# Altium integrated library Microchip Power Management Line Regulator.IntLib: 1169 symbols (part 31 of 31)
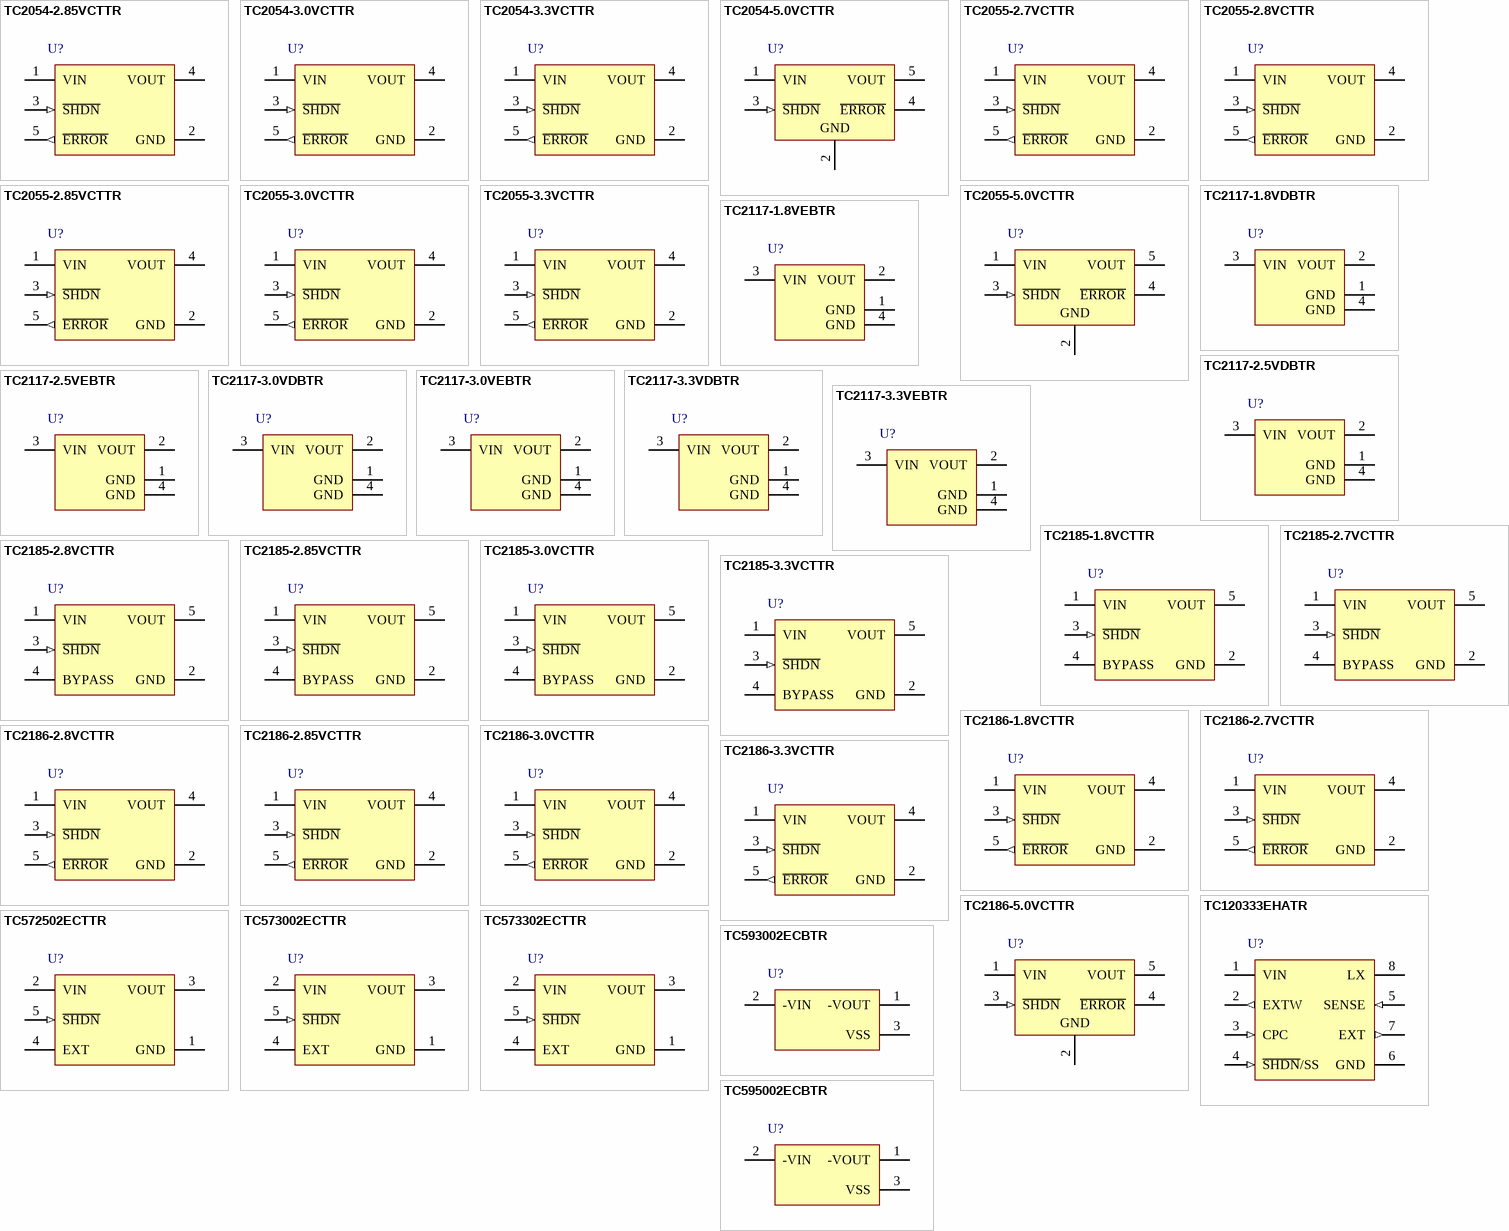
[diagram p59: symbols TC2054-2.85VCTTR to TC595002ECBTR]

## TC2117-2.5VEBTR
designator U?
800 mA Fixed Low Dropout Positive Regulator, 3-Pin DDPAK, Extended Temperature, Tape and Reel; Manufacturer: Microchip; PartNumber: TC2117-2.5VEBTR; DatasheetVersion: revC, Oct-2006; PackageVersion: revBB, Aug-2009; PackageReference: DDPAK-EB3; PackageDescription: 3-Lead Plastic (EB) [DDPAK]; Supplier 1: Digi-Key; Supplier Part Number 1: TC2117-2.5VEBTR-ND; Supplier 2: Mouser; Supplier Part Number 2: 579-TC2117-2.5VEBTR; Mounting Technology: Surface Mount; ComponentLink1Description: Manufacturer URL; ComponentLink1URL: http://www.microchip.com/; ComponentLink2Description: Datasheet; ComponentLink2URL: http://ww1.microchip.com/downloads/en/DeviceDoc/21665c.pdf; ComponentLink3Description: Package Specification; ComponentLink3URL: http://www.microchip.com/stellent/groups/techpub_sg/documents/packagingspec/en012702.pdf
footprint DDPAK-EB3_N (D2-PAK, 4-Leads, Body 9x10.2mm, Pitch 2.54mm, Lead Span 14.9mm, IPC Medium Density)
footprint DDPAK-EB3_L (D2-PAK, 4-Leads, Body 9x10.2mm, Pitch 2.54mm, Lead Span 14.9mm, IPC High Density)
footprint DDPAK-EB3_M (D2-PAK, 4-Leads, Body 9x10.2mm, Pitch 2.54mm, Lead Span 14.9mm, IPC Low Density)
pins: 1 GND (power), 2 VOUT (power), 3 VIN (power), 4 GND (power)

## TC2117-3.0VDBTR
designator U?
800 mA Fixed Low Dropout Positive Regulator, 3-Pin SOT-223, Extended Temperature, Tape and Reel; Manufacturer: Microchip; PartNumber: TC2117-3.0VDBTR; DatasheetVersion: revC, Oct-2006; PackageVersion: revBB, Aug-2009; PackageReference: SOT-223-DB3; PackageDescription: 3-Lead Plastic Small Outline Transistor (DB) [SOT-223]; Supplier 1: Digi-Key; Supplier Part Number 1: TC2117-3.0VDBTR-ND; Supplier 2: Mouser; Supplier Part Number 2: 579-TC2117-3.0VDBTR; Mounting Technology: Surface Mount; ComponentLink1Description: Manufacturer URL; ComponentLink1URL: http://www.microchip.com/; ComponentLink2Description: Datasheet; ComponentLink2URL: http://ww1.microchip.com/downloads/en/DeviceDoc/21665c.pdf; ComponentLink3Description: Package Specification; ComponentLink3URL: http://www.microchip.com/stellent/groups/techpub_sg/documents/packagingspec/en012702.pdf
footprint SOT-223-DB3_N (SOT223, 4-Leads, Body 6.5x3.5mm, Pitch 2.3mm, Lead Span 7mm, IPC Medium Density)
footprint SOT-223-DB3_L (SOT223, 4-Leads, Body 6.5x3.5mm, Pitch 2.3mm, Lead Span 7mm, IPC High Density)
footprint SOT-223-DB3_M (SOT223, 4-Leads, Body 6.5x3.5mm, Pitch 2.3mm, Lead Span 7mm, IPC Low Density)
pins: 1 GND (power), 2 VOUT (power), 3 VIN (power), 4 GND (power)

## TC2117-3.0VEBTR
designator U?
800 mA Fixed Low Dropout Positive Regulator, 3-Pin DDPAK, Extended Temperature, Tape and Reel; Manufacturer: Microchip; PartNumber: TC2117-3.0VEBTR; DatasheetVersion: revC, Oct-2006; PackageVersion: revBB, Aug-2009; PackageReference: DDPAK-EB3; PackageDescription: 3-Lead Plastic (EB) [DDPAK]; Supplier 1: Digi-Key; Supplier Part Number 1: TC2117-3.0VEBTR-ND; Supplier 2: Mouser; Supplier Part Number 2: 579-TC2117-3.0VEBTR; Mounting Technology: Surface Mount; ComponentLink1Description: Manufacturer URL; ComponentLink1URL: http://www.microchip.com/; ComponentLink2Description: Datasheet; ComponentLink2URL: http://ww1.microchip.com/downloads/en/DeviceDoc/21665c.pdf; ComponentLink3Description: Package Specification; ComponentLink3URL: http://www.microchip.com/stellent/groups/techpub_sg/documents/packagingspec/en012702.pdf
footprint DDPAK-EB3_N (D2-PAK, 4-Leads, Body 9x10.2mm, Pitch 2.54mm, Lead Span 14.9mm, IPC Medium Density)
footprint DDPAK-EB3_L (D2-PAK, 4-Leads, Body 9x10.2mm, Pitch 2.54mm, Lead Span 14.9mm, IPC High Density)
footprint DDPAK-EB3_M (D2-PAK, 4-Leads, Body 9x10.2mm, Pitch 2.54mm, Lead Span 14.9mm, IPC Low Density)
pins: 1 GND (power), 2 VOUT (power), 3 VIN (power), 4 GND (power)

## TC2117-3.3VDBTR
designator U?
800 mA Fixed Low Dropout Positive Regulator, 3-Pin SOT-223, Extended Temperature, Tape and Reel; Manufacturer: Microchip; PartNumber: TC2117-3.3VDBTR; DatasheetVersion: revC, Oct-2006; PackageVersion: revBB, Aug-2009; PackageReference: SOT-223-DB3; PackageDescription: 3-Lead Plastic Small Outline Transistor (DB) [SOT-223]; Supplier 1: Digi-Key; Supplier Part Number 1: TC2117-3.3VDBTR-ND; Supplier 2: Farnell; Supplier Part Number 2: 1605581RL; Supplier 3: Farnell; Supplier Part Number 3: 1605581; Supplier 4: Newark; Supplier Part Number 4: 11N8302; Supplier 5: Mouser; Supplier Part Number 5: 579-TC2117-3.3VDBTR; Mounting Technology: Surface Mount; ComponentLink1Description: Manufacturer URL; ComponentLink1URL: http://www.microchip.com/; ComponentLink2Description: Datasheet; ComponentLink2URL: http://ww1.microchip.com/downloads/en/DeviceDoc/21665c.pdf; ComponentLink3Description: Package Specification; ComponentLink3URL: http://www.microchip.com/stellent/groups/techpub_sg/documents/packagingspec/en012702.pdf
footprint SOT-223-DB3_N (SOT223, 4-Leads, Body 6.5x3.5mm, Pitch 2.3mm, Lead Span 7mm, IPC Medium Density)
footprint SOT-223-DB3_L (SOT223, 4-Leads, Body 6.5x3.5mm, Pitch 2.3mm, Lead Span 7mm, IPC High Density)
footprint SOT-223-DB3_M (SOT223, 4-Leads, Body 6.5x3.5mm, Pitch 2.3mm, Lead Span 7mm, IPC Low Density)
pins: 1 GND (power), 2 VOUT (power), 3 VIN (power), 4 GND (power)

## TC2117-3.3VEBTR
designator U?
800 mA Fixed Low Dropout Positive Regulator, 3-Pin DDPAK, Extended Temperature, Tape and Reel; Manufacturer: Microchip; PartNumber: TC2117-3.3VEBTR; DatasheetVersion: revC, Oct-2006; PackageVersion: revBB, Aug-2009; PackageReference: DDPAK-EB3; PackageDescription: 3-Lead Plastic (EB) [DDPAK]; Supplier 1: Digi-Key; Supplier Part Number 1: TC2117-3.3VEBTR-ND; Supplier 2: Mouser; Supplier Part Number 2: 579-TC2117-3.3VEBTR; Mounting Technology: Surface Mount; ComponentLink1Description: Manufacturer URL; ComponentLink1URL: http://www.microchip.com/; ComponentLink2Description: Datasheet; ComponentLink2URL: http://ww1.microchip.com/downloads/en/DeviceDoc/21665c.pdf; ComponentLink3Description: Package Specification; ComponentLink3URL: http://www.microchip.com/stellent/groups/techpub_sg/documents/packagingspec/en012702.pdf
footprint DDPAK-EB3_N (D2-PAK, 4-Leads, Body 9x10.2mm, Pitch 2.54mm, Lead Span 14.9mm, IPC Medium Density)
footprint DDPAK-EB3_L (D2-PAK, 4-Leads, Body 9x10.2mm, Pitch 2.54mm, Lead Span 14.9mm, IPC High Density)
footprint DDPAK-EB3_M (D2-PAK, 4-Leads, Body 9x10.2mm, Pitch 2.54mm, Lead Span 14.9mm, IPC Low Density)
pins: 1 GND (power), 2 VOUT (power), 3 VIN (power), 4 GND (power)

## TC2185-1.8VCTTR
designator U?
50 mA, 100 mA, 150 mA CMOS LDOs with Shutdown and Reference Bypass, 5-Pin SOT-23, Extended Temperature, Tape and Reel; Manufacturer: Microchip; PartNumber: TC2185-1.8VCTTR; DatasheetVersion: revE, May-2006; PackageVersion: revBB, Aug-2009; PackageReference: SOT-23-CT5; PackageDescription: 5-Lead Plastic Small Outline Transistor (CT) [SOT-23]; Supplier 1: Digi-Key; Supplier Part Number 1: TC2185-1.8VCTR-ND; Supplier 2: Digi-Key; Supplier Part Number 2: TC2185-1.8VCCT-ND; Supplier 3: Digi-Key; Supplier Part Number 3: TC2185-1.8VCDKR-ND; Supplier 4: Newark; Supplier Part Number 4: 92C5981; Supplier 5: Mouser; Supplier Part Number 5: 579-TC2185-1.8VCTTR; Mounting Technology: Surface Mount; Code_IPC: SOT23-5; ComponentLink1Description: Manufacturer URL; ComponentLink1URL: http://www.microchip.com/; ComponentLink2Description: Datasheet; ComponentLink2URL: http://ww1.microchip.com/downloads/en/DeviceDoc/21662e.pdf; ComponentLink3Description: Package Specification; ComponentLink3URL: http://www.microchip.com/stellent/groups/techpub_sg/documents/packagingspec/en012702.pdf
footprint SOT-23-CT5_N (SOT23, 5-Leads, Body 2.9x1.6mm, Pitch 0.95mm, Lead Span 2.7mm, IPC Medium Density)
footprint SOT-23-CT5_L (SOT23, 5-Leads, Body 2.9x1.6mm, Pitch 0.95mm, Lead Span 2.7mm, IPC High Density)
footprint SOT-23-CT5_M (SOT23, 5-Leads, Body 2.9x1.6mm, Pitch 0.95mm, Lead Span 2.7mm, IPC Low Density)
pins: 1 VIN (power), 2 GND (power), 3 ~{SHDN} (in), 4 BYPASS, 5 VOUT (power)

## TC2185-2.7VCTTR
designator U?
50 mA, 100 mA, 150 mA CMOS LDOs with Shutdown and Reference Bypass, 5-Pin SOT-23, Extended Temperature, Tape and Reel; Manufacturer: Microchip; PartNumber: TC2185-2.7VCTTR; DatasheetVersion: revE, May-2006; PackageVersion: revBB, Aug-2009; PackageReference: SOT-23-CT5; PackageDescription: 5-Lead Plastic Small Outline Transistor (CT) [SOT-23]; Supplier 1: Digi-Key; Supplier Part Number 1: TC2185-2.7VCTTR-ND; Supplier 2: Mouser; Supplier Part Number 2: 579-TC2185-2.7VCTTR; Mounting Technology: Surface Mount; Code_IPC: SOT23-5; ComponentLink1Description: Manufacturer URL; ComponentLink1URL: http://www.microchip.com/; ComponentLink2Description: Datasheet; ComponentLink2URL: http://ww1.microchip.com/downloads/en/DeviceDoc/21662e.pdf; ComponentLink3Description: Package Specification; ComponentLink3URL: http://www.microchip.com/stellent/groups/techpub_sg/documents/packagingspec/en012702.pdf
footprint SOT-23-CT5_N (SOT23, 5-Leads, Body 2.9x1.6mm, Pitch 0.95mm, Lead Span 2.7mm, IPC Medium Density)
footprint SOT-23-CT5_L (SOT23, 5-Leads, Body 2.9x1.6mm, Pitch 0.95mm, Lead Span 2.7mm, IPC High Density)
footprint SOT-23-CT5_M (SOT23, 5-Leads, Body 2.9x1.6mm, Pitch 0.95mm, Lead Span 2.7mm, IPC Low Density)
pins: 1 VIN (power), 2 GND (power), 3 ~{SHDN} (in), 4 BYPASS, 5 VOUT (power)

## TC2185-2.8VCTTR
designator U?
50 mA, 100 mA, 150 mA CMOS LDOs with Shutdown and Reference Bypass, 5-Pin SOT-23, Extended Temperature, Tape and Reel; Manufacturer: Microchip; PartNumber: TC2185-2.8VCTTR; DatasheetVersion: revE, May-2006; PackageVersion: revBB, Aug-2009; PackageReference: SOT-23-CT5; PackageDescription: 5-Lead Plastic Small Outline Transistor (CT) [SOT-23]; Supplier 1: Digi-Key; Supplier Part Number 1: TC2185-2.8VCTR-ND; Supplier 2: Digi-Key; Supplier Part Number 2: TC2185-2.8VCCT-ND; Supplier 3: Digi-Key; Supplier Part Number 3: TC2185-2.8VCDKR-ND; Supplier 4: Mouser; Supplier Part Number 4: 579-TC2185-2.8VCTTR; Mounting Technology: Surface Mount; Code_IPC: SOT23-5; ComponentLink1Description: Manufacturer URL; ComponentLink1URL: http://www.microchip.com/; ComponentLink2Description: Datasheet; ComponentLink2URL: http://ww1.microchip.com/downloads/en/DeviceDoc/21662e.pdf; ComponentLink3Description: Package Specification; ComponentLink3URL: http://www.microchip.com/stellent/groups/techpub_sg/documents/packagingspec/en012702.pdf
footprint SOT-23-CT5_N (SOT23, 5-Leads, Body 2.9x1.6mm, Pitch 0.95mm, Lead Span 2.7mm, IPC Medium Density)
footprint SOT-23-CT5_L (SOT23, 5-Leads, Body 2.9x1.6mm, Pitch 0.95mm, Lead Span 2.7mm, IPC High Density)
footprint SOT-23-CT5_M (SOT23, 5-Leads, Body 2.9x1.6mm, Pitch 0.95mm, Lead Span 2.7mm, IPC Low Density)
pins: 1 VIN (power), 2 GND (power), 3 ~{SHDN} (in), 4 BYPASS, 5 VOUT (power)

## TC2185-2.85VCTTR
designator U?
50 mA, 100 mA, 150 mA CMOS LDOs with Shutdown and Reference Bypass, 5-Pin SOT-23, Extended Temperature, Tape and Reel; Manufacturer: Microchip; PartNumber: TC2185-2.85VCTTR; DatasheetVersion: revE, May-2006; PackageVersion: revBB, Aug-2009; PackageReference: SOT-23-CT5; PackageDescription: 5-Lead Plastic Small Outline Transistor (CT) [SOT-23]; Supplier 1: Digi-Key; Supplier Part Number 1: TC2185-2.85VCTTR-ND; Supplier 2: Mouser; Supplier Part Number 2: 579-TC2185-2.85VCTTR; Mounting Technology: Surface Mount; Code_IPC: SOT23-5; ComponentLink1Description: Manufacturer URL; ComponentLink1URL: http://www.microchip.com/; ComponentLink2Description: Datasheet; ComponentLink2URL: http://ww1.microchip.com/downloads/en/DeviceDoc/21662e.pdf; ComponentLink3Description: Package Specification; ComponentLink3URL: http://www.microchip.com/stellent/groups/techpub_sg/documents/packagingspec/en012702.pdf
footprint SOT-23-CT5_N (SOT23, 5-Leads, Body 2.9x1.6mm, Pitch 0.95mm, Lead Span 2.7mm, IPC Medium Density)
footprint SOT-23-CT5_L (SOT23, 5-Leads, Body 2.9x1.6mm, Pitch 0.95mm, Lead Span 2.7mm, IPC High Density)
footprint SOT-23-CT5_M (SOT23, 5-Leads, Body 2.9x1.6mm, Pitch 0.95mm, Lead Span 2.7mm, IPC Low Density)
pins: 1 VIN (power), 2 GND (power), 3 ~{SHDN} (in), 4 BYPASS, 5 VOUT (power)

## TC2185-3.0VCTTR
designator U?
50 mA, 100 mA, 150 mA CMOS LDOs with Shutdown and Reference Bypass, 5-Pin SOT-23, Extended Temperature, Tape and Reel; Manufacturer: Microchip; PartNumber: TC2185-3.0VCTTR; DatasheetVersion: revE, May-2006; PackageVersion: revBB, Aug-2009; PackageReference: SOT-23-CT5; PackageDescription: 5-Lead Plastic Small Outline Transistor (CT) [SOT-23]; Supplier 1: Digi-Key; Supplier Part Number 1: TC2185-3.0VCTR-ND; Supplier 2: Digi-Key; Supplier Part Number 2: TC2185-3.0VCCT-ND; Supplier 3: Digi-Key; Supplier Part Number 3: TC2185-3.0VCDKR-ND; Supplier 4: Newark; Supplier Part Number 4: 92C5985; Supplier 5: Mouser; Supplier Part Number 5: 579-TC2185-3.0VCTTR; Mounting Technology: Surface Mount; Code_IPC: SOT23-5; ComponentLink1Description: Manufacturer URL; ComponentLink1URL: http://www.microchip.com/; ComponentLink2Description: Datasheet; ComponentLink2URL: http://ww1.microchip.com/downloads/en/DeviceDoc/21662e.pdf; ComponentLink3Description: Package Specification; ComponentLink3URL: http://www.microchip.com/stellent/groups/techpub_sg/documents/packagingspec/en012702.pdf
footprint SOT-23-CT5_N (SOT23, 5-Leads, Body 2.9x1.6mm, Pitch 0.95mm, Lead Span 2.7mm, IPC Medium Density)
footprint SOT-23-CT5_L (SOT23, 5-Leads, Body 2.9x1.6mm, Pitch 0.95mm, Lead Span 2.7mm, IPC High Density)
footprint SOT-23-CT5_M (SOT23, 5-Leads, Body 2.9x1.6mm, Pitch 0.95mm, Lead Span 2.7mm, IPC Low Density)
pins: 1 VIN (power), 2 GND (power), 3 ~{SHDN} (in), 4 BYPASS, 5 VOUT (power)

## TC2185-3.3VCTTR
designator U?
50 mA, 100 mA, 150 mA CMOS LDOs with Shutdown and Reference Bypass, 5-Pin SOT-23, Extended Temperature, Tape and Reel; Manufacturer: Microchip; PartNumber: TC2185-3.3VCTTR; DatasheetVersion: revE, May-2006; PackageVersion: revBB, Aug-2009; PackageReference: SOT-23-CT5; PackageDescription: 5-Lead Plastic Small Outline Transistor (CT) [SOT-23]; Supplier 1: Digi-Key; Supplier Part Number 1: TC2185-3.3VCTR-ND; Supplier 2: Digi-Key; Supplier Part Number 2: TC2185-3.3VCCT-ND; Supplier 3: Digi-Key; Supplier Part Number 3: TC2185-3.3VCDKR-ND; Supplier 4: Mouser; Supplier Part Number 4: 579-TC2185-3.3VCTTR; Mounting Technology: Surface Mount; Code_IPC: SOT23-5; ComponentLink1Description: Manufacturer URL; ComponentLink1URL: http://www.microchip.com/; ComponentLink2Description: Datasheet; ComponentLink2URL: http://ww1.microchip.com/downloads/en/DeviceDoc/21662e.pdf; ComponentLink3Description: Package Specification; ComponentLink3URL: http://www.microchip.com/stellent/groups/techpub_sg/documents/packagingspec/en012702.pdf
footprint SOT-23-CT5_N (SOT23, 5-Leads, Body 2.9x1.6mm, Pitch 0.95mm, Lead Span 2.7mm, IPC Medium Density)
footprint SOT-23-CT5_L (SOT23, 5-Leads, Body 2.9x1.6mm, Pitch 0.95mm, Lead Span 2.7mm, IPC High Density)
footprint SOT-23-CT5_M (SOT23, 5-Leads, Body 2.9x1.6mm, Pitch 0.95mm, Lead Span 2.7mm, IPC Low Density)
pins: 1 VIN (power), 2 GND (power), 3 ~{SHDN} (in), 4 BYPASS, 5 VOUT (power)

## TC2186-1.8VCTTR
designator U?
50 mA, 100 mA, 150 mA CMOS LDOs with Shutdown and Reference Bypass, 5-Pin SOT-23, Extended Temperature, Tape and Reel; Manufacturer: Microchip; PartNumber: TC2186-1.8VCTTR; DatasheetVersion: revE, May-2006; PackageVersion: revBB, Aug-2009; PackageReference: SOT-23-CT5; PackageDescription: 5-Lead Plastic Small Outline Transistor (CT) [SOT-23]; Supplier 1: Digi-Key; Supplier Part Number 1: TC2186-1.8VCTTR-ND; Supplier 2: Mouser; Supplier Part Number 2: 579-TC2186-1.8VCTTR; Mounting Technology: Surface Mount; Code_IPC: SOT23-5; ComponentLink1Description: Manufacturer URL; ComponentLink1URL: http://www.microchip.com/; ComponentLink2Description: Datasheet; ComponentLink2URL: http://ww1.microchip.com/downloads/en/DeviceDoc/21662e.pdf; ComponentLink3Description: Package Specification; ComponentLink3URL: http://www.microchip.com/stellent/groups/techpub_sg/documents/packagingspec/en012702.pdf
footprint SOT-23-CT5_N (SOT23, 5-Leads, Body 2.9x1.6mm, Pitch 0.95mm, Lead Span 2.7mm, IPC Medium Density)
footprint SOT-23-CT5_L (SOT23, 5-Leads, Body 2.9x1.6mm, Pitch 0.95mm, Lead Span 2.7mm, IPC High Density)
footprint SOT-23-CT5_M (SOT23, 5-Leads, Body 2.9x1.6mm, Pitch 0.95mm, Lead Span 2.7mm, IPC Low Density)
pins: 1 VIN (power), 2 GND (power), 3 ~{SHDN} (in), 4 VOUT (power), 5 ~{ERROR} (out)

## TC2186-2.7VCTTR
designator U?
50 mA, 100 mA, 150 mA CMOS LDOs with Shutdown and Reference Bypass, 5-Pin SOT-23, Extended Temperature, Tape and Reel; Manufacturer: Microchip; PartNumber: TC2186-2.7VCTTR; DatasheetVersion: revE, May-2006; PackageVersion: revBB, Aug-2009; PackageReference: SOT-23-CT5; PackageDescription: 5-Lead Plastic Small Outline Transistor (CT) [SOT-23]; Supplier 1: Digi-Key; Supplier Part Number 1: TC2186-2.7VCTTR-ND; Supplier 2: Mouser; Supplier Part Number 2: 579-TC2186-2.7VCTTR; Mounting Technology: Surface Mount; Code_IPC: SOT23-5; ComponentLink1Description: Manufacturer URL; ComponentLink1URL: http://www.microchip.com/; ComponentLink2Description: Datasheet; ComponentLink2URL: http://ww1.microchip.com/downloads/en/DeviceDoc/21662e.pdf; ComponentLink3Description: Package Specification; ComponentLink3URL: http://www.microchip.com/stellent/groups/techpub_sg/documents/packagingspec/en012702.pdf
footprint SOT-23-CT5_N (SOT23, 5-Leads, Body 2.9x1.6mm, Pitch 0.95mm, Lead Span 2.7mm, IPC Medium Density)
footprint SOT-23-CT5_L (SOT23, 5-Leads, Body 2.9x1.6mm, Pitch 0.95mm, Lead Span 2.7mm, IPC High Density)
footprint SOT-23-CT5_M (SOT23, 5-Leads, Body 2.9x1.6mm, Pitch 0.95mm, Lead Span 2.7mm, IPC Low Density)
pins: 1 VIN (power), 2 GND (power), 3 ~{SHDN} (in), 4 VOUT (power), 5 ~{ERROR} (out)

## TC2186-2.8VCTTR
designator U?
50 mA, 100 mA, 150 mA CMOS LDOs with Shutdown and Reference Bypass, 5-Pin SOT-23, Extended Temperature, Tape and Reel; Manufacturer: Microchip; PartNumber: TC2186-2.8VCTTR; DatasheetVersion: revE, May-2006; PackageVersion: revBB, Aug-2009; PackageReference: SOT-23-CT5; PackageDescription: 5-Lead Plastic Small Outline Transistor (CT) [SOT-23]; Supplier 1: Digi-Key; Supplier Part Number 1: TC2186-2.8VCTTR-ND; Supplier 2: Mouser; Supplier Part Number 2: 579-TC2186-2.8VCTTR; Mounting Technology: Surface Mount; Code_IPC: SOT23-5; ComponentLink1Description: Manufacturer URL; ComponentLink1URL: http://www.microchip.com/; ComponentLink2Description: Datasheet; ComponentLink2URL: http://ww1.microchip.com/downloads/en/DeviceDoc/21662e.pdf; ComponentLink3Description: Package Specification; ComponentLink3URL: http://www.microchip.com/stellent/groups/techpub_sg/documents/packagingspec/en012702.pdf
footprint SOT-23-CT5_N (SOT23, 5-Leads, Body 2.9x1.6mm, Pitch 0.95mm, Lead Span 2.7mm, IPC Medium Density)
footprint SOT-23-CT5_L (SOT23, 5-Leads, Body 2.9x1.6mm, Pitch 0.95mm, Lead Span 2.7mm, IPC High Density)
footprint SOT-23-CT5_M (SOT23, 5-Leads, Body 2.9x1.6mm, Pitch 0.95mm, Lead Span 2.7mm, IPC Low Density)
pins: 1 VIN (power), 2 GND (power), 3 ~{SHDN} (in), 4 VOUT (power), 5 ~{ERROR} (out)

## TC2186-2.85VCTTR
designator U?
50 mA, 100 mA, 150 mA CMOS LDOs with Shutdown and Reference Bypass, 5-Pin SOT-23, Extended Temperature, Tape and Reel; Manufacturer: Microchip; PartNumber: TC2186-2.85VCTTR; DatasheetVersion: revE, May-2006; PackageVersion: revBB, Aug-2009; PackageReference: SOT-23-CT5; PackageDescription: 5-Lead Plastic Small Outline Transistor (CT) [SOT-23]; Supplier 1: Digi-Key; Supplier Part Number 1: TC2186-2.85VCTTR-ND; Supplier 2: Mouser; Supplier Part Number 2: 579-TC2186-2.85VCTTR; Mounting Technology: Surface Mount; Code_IPC: SOT23-5; ComponentLink1Description: Manufacturer URL; ComponentLink1URL: http://www.microchip.com/; ComponentLink2Description: Datasheet; ComponentLink2URL: http://ww1.microchip.com/downloads/en/DeviceDoc/21662e.pdf; ComponentLink3Description: Package Specification; ComponentLink3URL: http://www.microchip.com/stellent/groups/techpub_sg/documents/packagingspec/en012702.pdf
footprint SOT-23-CT5_N (SOT23, 5-Leads, Body 2.9x1.6mm, Pitch 0.95mm, Lead Span 2.7mm, IPC Medium Density)
footprint SOT-23-CT5_L (SOT23, 5-Leads, Body 2.9x1.6mm, Pitch 0.95mm, Lead Span 2.7mm, IPC High Density)
footprint SOT-23-CT5_M (SOT23, 5-Leads, Body 2.9x1.6mm, Pitch 0.95mm, Lead Span 2.7mm, IPC Low Density)
pins: 1 VIN (power), 2 GND (power), 3 ~{SHDN} (in), 4 VOUT (power), 5 ~{ERROR} (out)

## TC2186-3.0VCTTR
designator U?
50 mA, 100 mA, 150 mA CMOS LDOs with Shutdown and Reference Bypass, 5-Pin SOT-23, Extended Temperature, Tape and Reel; Manufacturer: Microchip; PartNumber: TC2186-3.0VCTTR; DatasheetVersion: revE, May-2006; PackageVersion: revBB, Aug-2009; PackageReference: SOT-23-CT5; PackageDescription: 5-Lead Plastic Small Outline Transistor (CT) [SOT-23]; Supplier 1: Digi-Key; Supplier Part Number 1: TC2186-3.0VCTTR-ND; Supplier 2: Mouser; Supplier Part Number 2: 579-TC2186-3.0VCTTR; Mounting Technology: Surface Mount; Code_IPC: SOT23-5; ComponentLink1Description: Manufacturer URL; ComponentLink1URL: http://www.microchip.com/; ComponentLink2Description: Datasheet; ComponentLink2URL: http://ww1.microchip.com/downloads/en/DeviceDoc/21662e.pdf; ComponentLink3Description: Package Specification; ComponentLink3URL: http://www.microchip.com/stellent/groups/techpub_sg/documents/packagingspec/en012702.pdf
footprint SOT-23-CT5_N (SOT23, 5-Leads, Body 2.9x1.6mm, Pitch 0.95mm, Lead Span 2.7mm, IPC Medium Density)
footprint SOT-23-CT5_L (SOT23, 5-Leads, Body 2.9x1.6mm, Pitch 0.95mm, Lead Span 2.7mm, IPC High Density)
footprint SOT-23-CT5_M (SOT23, 5-Leads, Body 2.9x1.6mm, Pitch 0.95mm, Lead Span 2.7mm, IPC Low Density)
pins: 1 VIN (power), 2 GND (power), 3 ~{SHDN} (in), 4 VOUT (power), 5 ~{ERROR} (out)

## TC2186-3.3VCTTR
designator U?
50 mA, 100 mA, 150 mA CMOS LDOs with Shutdown and Reference Bypass, 5-Pin SOT-23, Extended Temperature, Tape and Reel; Manufacturer: Microchip; PartNumber: TC2186-3.3VCTTR; DatasheetVersion: revE, May-2006; PackageVersion: revBB, Aug-2009; PackageReference: SOT-23-CT5; PackageDescription: 5-Lead Plastic Small Outline Transistor (CT) [SOT-23]; Supplier 1: Digi-Key; Supplier Part Number 1: TC2186-3.3VCTTR-ND; Supplier 2: Mouser; Supplier Part Number 2: 579-TC2186-3.3VCTTR; Mounting Technology: Surface Mount; Code_IPC: SOT23-5; ComponentLink1Description: Manufacturer URL; ComponentLink1URL: http://www.microchip.com/; ComponentLink2Description: Datasheet; ComponentLink2URL: http://ww1.microchip.com/downloads/en/DeviceDoc/21662e.pdf; ComponentLink3Description: Package Specification; ComponentLink3URL: http://www.microchip.com/stellent/groups/techpub_sg/documents/packagingspec/en012702.pdf
footprint SOT-23-CT5_N (SOT23, 5-Leads, Body 2.9x1.6mm, Pitch 0.95mm, Lead Span 2.7mm, IPC Medium Density)
footprint SOT-23-CT5_L (SOT23, 5-Leads, Body 2.9x1.6mm, Pitch 0.95mm, Lead Span 2.7mm, IPC High Density)
footprint SOT-23-CT5_M (SOT23, 5-Leads, Body 2.9x1.6mm, Pitch 0.95mm, Lead Span 2.7mm, IPC Low Density)
pins: 1 VIN (power), 2 GND (power), 3 ~{SHDN} (in), 4 VOUT (power), 5 ~{ERROR} (out)

## TC2186-5.0VCTTR
designator U?
CMOS LDOs with Shutdown and E / o / Output, Output Current 150 mA, Max Input Voltage 6 V, Output Voltage 5 V, -40 to 125 degC, 5-pin SOT-23 (OT5), Tape and Reel; Manufacturer: Microchip; PartNumber: TC2186-5.0VCTTR; DatasheetVersion: Rev. D; PackageVersion: C04-091B; PackageReference: SOT-23-OT5; PackageDescription: 5-Lead Plastic Small Outline Transistor, 2.9 x 1.55 mm Body, 0.95 mm Pitch; Supplier 1: Digi-Key; Supplier Part Number 1: TC2186-5.0VCTTR-ND; Supplier 2: Digi-Key; Supplier Part Number 2: TC2186-5.0VCTCT-ND; Supplier 3: Digi-Key; Supplier Part Number 3: TC2186-5.0VCTDKR-ND; Supplier 4: Newark; Supplier Part Number 4: 53R0377; Supplier 5: Mouser; Supplier Part Number 5: 579-TC2186-5.0VCTTR; Mounting Technology: Surface Mount; ComponentLink1Description: Manufacturer URL; ComponentLink1URL: http://www.microchip.com; ComponentLink2Description: Datasheet; ComponentLink2URL: http://ww1.microchip.com/downloads/en/DeviceDoc/21663d.pdf; ComponentLink3Description: Package Specification; ComponentLink3URL: http://www.microchip.com/stellent/groups/techpub_sg/documents/packagingspec/en012702.pdf; ComponentLink4Description: Product URL; ComponentLink4URL: http://www.microchip.com/TC2186
footprint MCHP-SOT-23-OT5_N (SOT23, 5-Leads, Body 2.9x1.55mm, Pitch 0.95mm, IPC Medium Density)
footprint MCHP-SOT-23-OT5_L (SOT23, 5-Leads, Body 2.9x1.55mm, Pitch 0.95mm, IPC High Density)
footprint MCHP-SOT-23-OT5_M (SOT23, 5-Leads, Body 2.9x1.55mm, Pitch 0.95mm, IPC Low Density)
pins: 1 VIN (power) "Unregulated supply input.", 2 GND (power) "Ground terminal.", 3 ~{SHDN} (in) "Shutdown control input. The regulator is fully enabled when a logic high is applied to this input. The regulator enters shutdown when a logic low is applied to this input. During shutdown, output voltage falls to zero, ERROR (See Datasheet)", 4 ~{ERROR} (oc) "Out-of-Regulation Flag. (Open-drain output). This output goes low when VOUT is out-of-tolerance by approximately -5%.", 5 VOUT (power) "Regulated voltage output."

## TC120333EHATR
designator U?
PWM / PFM Step-Down Combination Regulator / Controller, 1.8 to 10 V Input Voltage, 3.3 V Output Voltage, -40 to 85 degC, 8-pin SOP (HA8), Tape and Reel; Manufacturer: Microchip; PartNumber: TC120333EHATR; PackageReference: SOP-HA8; PackageDescription: 8-Lead SOP, 5.2 x 4.4 mm Body, 1.27 mm Pitch; Supplier 1: Digi-Key; Supplier Part Number 1: TC120333EHATR-ND; Supplier 2: Mouser; Supplier Part Number 2: 579-TC120333EHATR; Mounting Technology: Surface Mount; ComponentLink1Description: Manufacturer URL; ComponentLink1URL: http://www.microchip.com; ComponentLink2Description: Datasheet; ComponentLink2URL: http://ww1.microchip.com/downloads/en/DeviceDoc/21365b.pdf; ComponentLink3Description: Package Specification; ComponentLink3URL: http://ww1.microchip.com/downloads/en/DeviceDoc/21365b.pdf; ComponentLink4Description: Product URL; ComponentLink4URL: http://www.microchip.com/TC120
footprint MCHP-SOP-HA8_N (SOP, 8-Leads, Body 5.2x4.4mm, Pitch 1.27mm, IPC Medium Density)
footprint MCHP-SOP-HA8_L (SOP, 8-Leads, Body 5.2x4.4mm, Pitch 1.27mm, IPC High Density)
footprint MCHP-SOP-HA8_M (SOP, 8-Leads, Body 5.2x4.4mm, Pitch 1.27mm, IPC Low Density)
pins: 1 VIN (power) "Unregulated supply input.", 2 EXTW (out) "Extended external switching transistor drive output. This output follows the timing on the EXT output with an additional 100nsec blanking time on both the leading and trailing edges. That is, this output transitions from (See Datasheet)", 3 CPC (in) "Charge pump capacitor input. An inverting charge pump is formed by attaching a capacitor and diode to this input. (See Section 3.5 Improving High Load Efficiency In Regulator Operating Mode).", 4 ~{SHDN}/SS (in) "Shutdown and soft-start control input. A soft start capacitor of 100pF (min) must be connected to this input. The soft start capacitor is charged by an internal µA current source that gently ramps the TC120 into service. (See Datasheet)", 5 SENSE (in) "Voltage sense input. This input must be connected to the output voltage node at the physical location that requires the tightest voltage regulation.", 6 GND (power) "Ground terminal.", 7 EXT (out) "External switching transistor drive output. This output connects directly to the gate of an external P-channel MOSFET for applications requiring output currents greater than 600mA. The timing of this output exactly matches (See Datasheet)", 8 LX (power) "Inductor terminal. This pin is connected to the drain of the internal P-channel switching transistor. If the TC120 is operated as a regulator (i.e., using the internal switch); the inductor must be connected between this pin (See Datasheet)"

## TC572502ECTTR
designator U?
Line Regulator Controller, 5-Pin SOT-23, Industrial Temperature, Tape and Reel; Manufacturer: Microchip; PartNumber: TC572502ECTTR; DatasheetVersion: revB, 2002; PackageVersion: revBB, Aug-2009; PackageReference: SOT-23-CT5; PackageDescription: 5-Lead Plastic Small Outline Transistor (CT) [SOT-23]; Supplier 1: Digi-Key; Supplier Part Number 1: TC572502ECTTR-ND; Supplier 2: Mouser; Supplier Part Number 2: 579-TC572502ECTTR; Mounting Technology: Surface Mount; Code_IPC: SOT23-5; ComponentLink1Description: Manufacturer URL; ComponentLink1URL: http://www.microchip.com/; ComponentLink2Description: Datasheet; ComponentLink2URL: http://ww1.microchip.com/downloads/en/DeviceDoc/21437b.pdf; ComponentLink3Description: Package Specification; ComponentLink3URL: http://www.microchip.com/stellent/groups/techpub_sg/documents/packagingspec/en012702.pdf
footprint SOT-23-CT5_N (SOT23, 5-Leads, Body 2.9x1.6mm, Pitch 0.95mm, Lead Span 2.7mm, IPC Medium Density)
footprint SOT-23-CT5_L (SOT23, 5-Leads, Body 2.9x1.6mm, Pitch 0.95mm, Lead Span 2.7mm, IPC High Density)
footprint SOT-23-CT5_M (SOT23, 5-Leads, Body 2.9x1.6mm, Pitch 0.95mm, Lead Span 2.7mm, IPC Low Density)
pins: 1 GND (power), 2 VIN (power), 3 VOUT (power), 4 EXT, 5 ~{SHDN} (in)

## TC573002ECTTR
designator U?
Line Regulator Controller, 5-Pin SOT-23, Industrial Temperature, Tape and Reel; Manufacturer: Microchip; PartNumber: TC573002ECTTR; DatasheetVersion: revB, 2002; PackageVersion: revBB, Aug-2009; PackageReference: SOT-23-CT5; PackageDescription: 5-Lead Plastic Small Outline Transistor (CT) [SOT-23]; Supplier 1: Digi-Key; Supplier Part Number 1: TC573002ECTTR-ND; Supplier 2: Mouser; Supplier Part Number 2: 579-TC573002ECTTR; Mounting Technology: Surface Mount; Code_IPC: SOT23-5; ComponentLink1Description: Manufacturer URL; ComponentLink1URL: http://www.microchip.com/; ComponentLink2Description: Datasheet; ComponentLink2URL: http://ww1.microchip.com/downloads/en/DeviceDoc/21437b.pdf; ComponentLink3Description: Package Specification; ComponentLink3URL: http://www.microchip.com/stellent/groups/techpub_sg/documents/packagingspec/en012702.pdf
footprint SOT-23-CT5_N (SOT23, 5-Leads, Body 2.9x1.6mm, Pitch 0.95mm, Lead Span 2.7mm, IPC Medium Density)
footprint SOT-23-CT5_L (SOT23, 5-Leads, Body 2.9x1.6mm, Pitch 0.95mm, Lead Span 2.7mm, IPC High Density)
footprint SOT-23-CT5_M (SOT23, 5-Leads, Body 2.9x1.6mm, Pitch 0.95mm, Lead Span 2.7mm, IPC Low Density)
pins: 1 GND (power), 2 VIN (power), 3 VOUT (power), 4 EXT, 5 ~{SHDN} (in)

## TC573302ECTTR
designator U?
Line Regulator Controller, 5-Pin SOT-23, Industrial Temperature, Tape and Reel; Manufacturer: Microchip; PartNumber: TC573302ECTTR; DatasheetVersion: revB, 2002; PackageVersion: revBB, Aug-2009; PackageReference: SOT-23-CT5; PackageDescription: 5-Lead Plastic Small Outline Transistor (CT) [SOT-23]; Supplier 1: Digi-Key; Supplier Part Number 1: TC573302ECTTR-ND; Supplier 2: Mouser; Supplier Part Number 2: 579-TC573302ECTTR; Mounting Technology: Surface Mount; Code_IPC: SOT23-5; ComponentLink1Description: Manufacturer URL; ComponentLink1URL: http://www.microchip.com/; ComponentLink2Description: Datasheet; ComponentLink2URL: http://ww1.microchip.com/downloads/en/DeviceDoc/21437b.pdf; ComponentLink3Description: Package Specification; ComponentLink3URL: http://www.microchip.com/stellent/groups/techpub_sg/documents/packagingspec/en012702.pdf
footprint SOT-23-CT5_N (SOT23, 5-Leads, Body 2.9x1.6mm, Pitch 0.95mm, Lead Span 2.7mm, IPC Medium Density)
footprint SOT-23-CT5_L (SOT23, 5-Leads, Body 2.9x1.6mm, Pitch 0.95mm, Lead Span 2.7mm, IPC High Density)
footprint SOT-23-CT5_M (SOT23, 5-Leads, Body 2.9x1.6mm, Pitch 0.95mm, Lead Span 2.7mm, IPC Low Density)
pins: 1 GND (power), 2 VIN (power), 3 VOUT (power), 4 EXT, 5 ~{SHDN} (in)

## TC593002ECBTR
designator U?
Low Dropout, Negative Output Voltage Regulator, 3-Pin SOT-23A, Industrial Temperature, Tape and Reel; Manufacturer: Microchip; PartNumber: TC593002ECBTR; DatasheetVersion: revB, 2002; PackageVersion: revBB, Aug-2009; PackageReference: SOT-23A-CB3; PackageDescription: 3-Lead Plastic Small Outline Transistor (CB) [SOT-23A]; Supplier 1: Digi-Key; Supplier Part Number 1: TC593002ECBTR-ND; Supplier 2: Newark; Supplier Part Number 2: 92C6307; Supplier 3: Mouser; Supplier Part Number 3: 579-TC593002ECBTR; Mounting Technology: Surface Mount; ComponentLink1Description: Manufacturer URL; ComponentLink1URL: http://www.microchip.com/; ComponentLink2Description: Datasheet; ComponentLink2URL: http://ww1.microchip.com/downloads/en/DeviceDoc/21438b.pdf; ComponentLink3Description: Package Specification; ComponentLink3URL: http://www.microchip.com/stellent/groups/techpub_sg/documents/packagingspec/en012702.pdf
footprint SOT-23A-CB3_N (SOT346, 3-Leads, Body 2.9x1.5mm, Pitch 0.95mm, Lead Span 2.6mm, IPC Medium Density)
footprint SOT-23A-CB3_L (SOT346, 3-Leads, Body 2.9x1.5mm, Pitch 0.95mm, Lead Span 2.6mm, IPC High Density)
footprint SOT-23A-CB3_M (SOT346, 3-Leads, Body 2.9x1.5mm, Pitch 0.95mm, Lead Span 2.6mm, IPC Low Density)
pins: 1 -VOUT (power), 2 -VIN (power), 3 VSS (power)

## TC595002ECBTR
designator U?
Low Dropout, Negative Output Voltage Regulator, 3-Pin SOT-23A, Industrial Temperature, Tape and Reel; Manufacturer: Microchip; PartNumber: TC595002ECBTR; DatasheetVersion: revB, 2002; PackageVersion: revBB, Aug-2009; PackageReference: SOT-23A-CB3; PackageDescription: 3-Lead Plastic Small Outline Transistor (CB) [SOT-23A]; Supplier 1: Digi-Key; Supplier Part Number 1: TC595002ECBTR-ND; Supplier 2: Newark; Supplier Part Number 2: 92C6308; Supplier 3: Mouser; Supplier Part Number 3: 579-TC595002ECBTR; Mounting Technology: Surface Mount; ComponentLink1Description: Manufacturer URL; ComponentLink1URL: http://www.microchip.com/; ComponentLink2Description: Datasheet; ComponentLink2URL: http://ww1.microchip.com/downloads/en/DeviceDoc/21438b.pdf; ComponentLink3Description: Package Specification; ComponentLink3URL: http://www.microchip.com/stellent/groups/techpub_sg/documents/packagingspec/en012702.pdf
footprint SOT-23A-CB3_N (SOT346, 3-Leads, Body 2.9x1.5mm, Pitch 0.95mm, Lead Span 2.6mm, IPC Medium Density)
footprint SOT-23A-CB3_L (SOT346, 3-Leads, Body 2.9x1.5mm, Pitch 0.95mm, Lead Span 2.6mm, IPC High Density)
footprint SOT-23A-CB3_M (SOT346, 3-Leads, Body 2.9x1.5mm, Pitch 0.95mm, Lead Span 2.6mm, IPC Low Density)
pins: 1 -VOUT (power), 2 -VIN (power), 3 VSS (power)